# EAGLE library part MS5525 (library Custom_old)
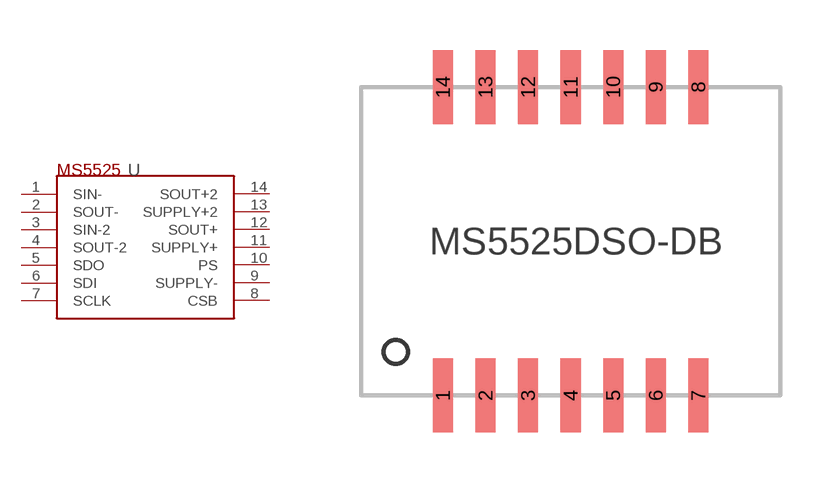
[diagram p26: symbol with the pads of SOIC14-WIDE; footprint SOIC14-WIDE]

Designator prefix -

## MS5525  [SOIC14-WIDE]
1  SIN-
2  SOUT-
3  SIN-2
4  SOUT-2
5  SDO
6  SDI
7  SCLK
8  CSB
9  SUPPLY-
10  PS
11  SUPPLY+
12  SOUT+
13  SUPPLY+2
14  SOUT+2

## Footprint SOIC14-WIDE (pad centres in mm)
smd 0.6 x 2.2: 1 0,0; 2 1.27,0; 3 2.54,0; 4 3.81,0; 5 5.08,0; 6 6.35,0; 7 7.62,0; 8 7.62,9.2; 9 6.35,9.2; 10 5.08,9.2; 11 3.81,9.2; 12 2.54,9.2; 13 1.27,9.2; 14 0,9.2